# Altium footprint library piRack1.PcbLib: 22 footprints (part 2 of 2)
Each footprint in its own frame and in the unit in brackets; x right, y up, seen from the top. Pads: shape width x height; smd on the part's side, far side on the other; paste and mask are expansions set on the pad; w line width, h text height; cw(c..) or ccw(c..) is an arc to the next point about the centre after c.
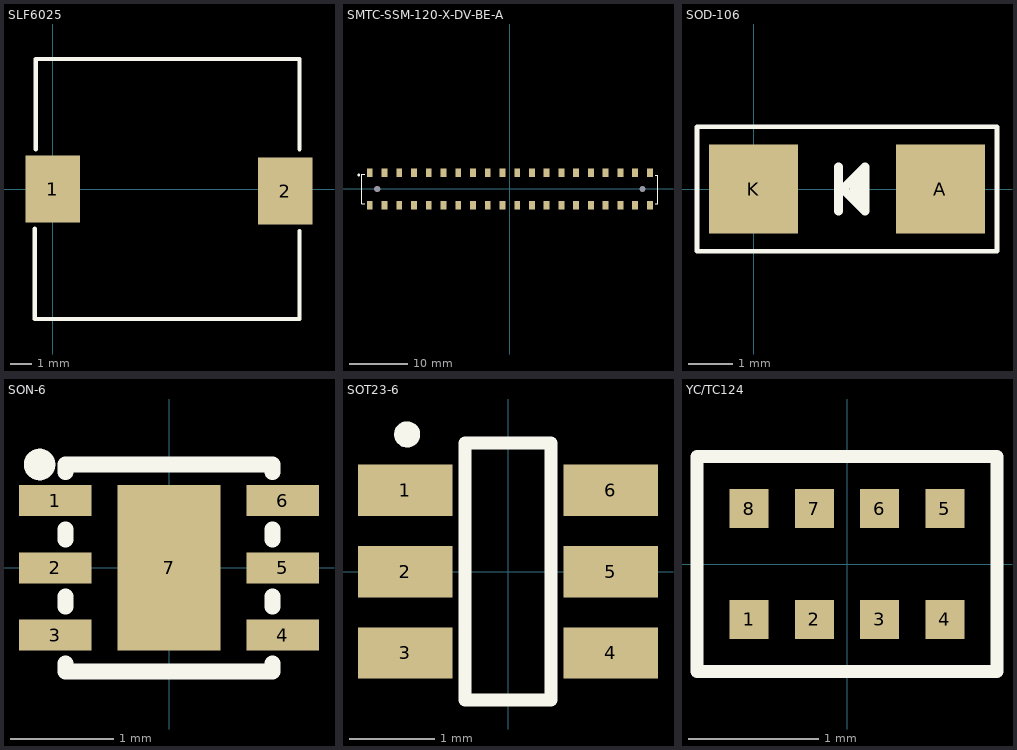
[diagram p1: the footprints below, top view; thin cyan lines are the x and y axes]

## SLF6025 [mm] "TDK Inductor"
height 2.5
pads (2):
  rect 2.6x3.2 smd: 1(0,0) 2(11.1,-0.1)
Top Overlay:
  lines w0.203: -0.85,-1.9 -0.85,-6.2 11.775,-6.2 11.775,-2 ; -0.8,1.9 -0.8,6.2 11.775,6.2 11.775,1.9
3D body: height 6.3, standoff 0, extent -0.6,-6.225 11.6,5.975

## SMTC-SSM-120-X-DV-BE-A [mm]
pads (42):
  rect 1.02x1.5 smd: 1(-24.13,2.822) 2(-24.13,-2.823) 3(-21.59,2.822) 4(-21.59,-2.823) 5(-19.05,2.822) 6(-19.05,-2.823) 7(-16.51,2.822) 8(-16.51,-2.823) 9(-13.97,2.822) 10(-13.97,-2.823) 11(-11.43,2.822) 12(-11.43,-2.823) 13(-8.89,2.822) 14(-8.89,-2.823) 15(-6.35,2.822) 16(-6.35,-2.823) 17(-3.81,2.822) 18(-3.81,-2.823) 19(-1.27,2.822) 20(-1.27,-2.823) 21(1.27,2.822) 22(1.27,-2.823) 23(3.81,2.822) 24(3.81,-2.823) 25(6.35,2.822) 26(6.35,-2.823) 27(8.89,2.822) 28(8.89,-2.823) 29(11.43,2.822) 30(11.43,-2.823) 31(13.97,2.822) 32(13.97,-2.823) 33(16.51,2.822) 34(16.51,-2.823) 35(19.05,2.822) 36(19.05,-2.823) 37(21.59,2.822) 38(21.59,-2.823) 39(24.13,2.822) 40(24.13,-2.823)
  round 0.8 hole 1.1: MH41(-22.86,0) MH42(22.86,0)
Top Overlay:
  circle w0.25: c-26.035,2.39 r0.125
  lines w0.2: -25.04,-2.54 -25.525,-2.54 -25.525,2.525 -25.04,2.525 ; 25.04,-2.54 25.525,-2.54 25.525,2.39 25.04,2.39
3D body: height 7.42, standoff -1.22, extent -25.4,-3.518 25.4,3.518

## SOD-106 [mm]
pads (2):
  rect 2x2 smd: A(4.191,0) K(0,0)
Top Overlay:
  lines w0.102: -1.27,-1.397 5.461,-1.397 5.461,1.397 -1.27,1.397 -1.27,-1.397
  lines w0.2: 1.902,-0.5 1.902,0.5 ; 2.252,-0.15 2.252,0.15 ; 2.402,-0.3 2.402,0.3 ; 2.002,0 2.502,-0.5 2.502,0.5 2.002,0
3D body: height 1.1, standoff 0, extent 4.475,-0.825 4.775,0.8
3D body: height 1.1, standoff 0.7, extent 4.35,-0.825 4.775,0.8
3D body: height 2.23, standoff 2.2, extent 0.463,-1.25 0.838,1.25
3D body: height 2, standoff 0.4, extent -0.125,-1.35 4.375,1.35
3D body: height 0.5, standoff 0, extent 1.6,-1.35 2.7,1.35
3D body: height 2.2, standoff 0.5, extent -0.125,-1.35 4.375,1.35
3D body: height 0.3, standoff 0, extent 3.8,-0.825 4.775,0.8
3D body: height 0.3, standoff 0, extent -0.525,-0.825 0.45,0.8
3D body: height 1.1, standoff 0, extent -0.525,-0.825 -0.225,0.8
3D body: height 1.1, standoff 0.7, extent -0.525,-0.825 -0.1,0.8

## SON-6 [mm]
height 0.8
pads (7):
  rect 0.7x0.3 smd: 1(-1.1,0.65) 2(-1.1,0) 3(-1.1,-0.65) 4(1.1,-0.65) 5(1.1,0) 6(1.1,0.65)
  rect 1x1.6 smd: 7(0,0)
Top Overlay:
  circle w0.152: c-1.251,1 r0.076
  lines w0.152: -1,-0.925 -1,-1 1,-1 1,-0.925 ; -1,-0.375 -1,-0.275 ; -1,0.275 -1,0.375 ; -1,0.925 -1,1 1,1 1,0.925 ; 1,-0.375 1,-0.275 ; 1,0.275 1,0.375
3D body: height 0.2, standoff 0, extent 0.787,-0.787 1.016,-0.508
3D body: height 0.75, standoff 0.05, extent -1,-1 1,1
3D body: height 0.2, standoff 0, extent -1.016,-0.787 -0.787,-0.508
3D body: height 0.2, standoff 0, extent -0.5,-0.8 0.5,0.8
3D body: height 0.2, standoff 0, extent 0.787,-0.127 1.016,0.127
3D body: height 0.2, standoff 0, extent 0.787,0.508 1.016,0.785
3D body: height 0.2, standoff 0, extent -1.016,-0.127 -0.787,0.127
3D body: height 0.2, standoff 0, extent -1.016,0.508 -0.787,0.787
3D body: height 0.76, standoff 0.74, extent -0.851,0.598 -0.598,0.852

## SOT23-6 [mm]
height 1.45
pads (6):
  rect 1.1x0.6 smd: 1(-1.2,0.95) 2(-1.2,0) 3(-1.2,-0.95) 4(1.2,-0.95) 5(1.2,0) 6(1.2,0.95)
Top Overlay:
  circle w0.152: c-1.176,1.6 r0.076
  lines w0.152: -0.5,-1.5 0.5,-1.5 0.5,1.5 -0.5,1.5 -0.5,-1.5
3D body: height 0.38, standoff 0, extent -1.562,-1.181 -1.181,-0.724
3D body: height 0.38, standoff 0, extent -1.562,-0.229 -1.181,0.229
3D body: height 0.89, standoff 0, extent -1.181,-1.181 -0.953,-0.724
3D body: height 0.89, standoff 0.51, extent -0.953,-1.181 -0.419,-0.724
3D body: height 0.38, standoff 0, extent -1.562,0.724 -1.181,1.181
3D body: height 0.89, standoff 0, extent -1.181,-0.229 -0.953,0.229
3D body: height 0.89, standoff 0, extent -1.181,0.724 -0.953,1.181
3D body: height 0.89, standoff 0.51, extent -0.953,-0.229 -0.419,0.229
3D body: height 1.46, standoff 1.44, extent -0.686,0.928 -0.433,1.181
3D body: height 0.89, standoff 0.51, extent -0.953,0.724 -0.419,1.181
3D body: height 0.89, standoff 0.51, extent 0.419,-1.181 0.953,-0.724
3D body: height 0.89, standoff 0, extent 0.953,-1.181 1.181,-0.724
3D body: height 0.38, standoff 0, extent 1.181,-1.181 1.562,-0.724
3D body: height 0.89, standoff 0.51, extent 0.419,-0.229 0.953,0.229
3D body: height 0.89, standoff 0, extent 0.953,-0.229 1.181,0.229
3D body: height 0.89, standoff 0.51, extent 0.419,0.724 0.953,1.181
3D body: height 0.89, standoff 0, extent 0.953,0.724 1.181,1.181
3D body: height 0.38, standoff 0, extent 1.181,-0.229 1.562,0.229
3D body: height 0.38, standoff 0, extent 1.181,0.724 1.562,1.181
3D body: height 1.45, standoff 0.15, extent -0.875,-1.5 0.875,1.5

## YC/TC124 [mm] "Yaego YC/TC124"
height 0.5
pads (8):
  rect 0.3x0.3 smd: 1(-0.75,-0.425) 2(-0.25,-0.425) 3(0.25,-0.425) 4(0.75,-0.425) 5(0.75,0.425) 6(0.25,0.425) 7(-0.25,0.425) 8(-0.75,0.425)
Top Overlay:
  lines w0.1: -1.15,-0.825 -1.15,0.825 1.15,0.825 1.15,-0.825 -1.15,-0.825
3D body: height 0.35, standoff -0.03, extent -1,-0.502 1,0.502